# EAGLE library part 4051 (library abdullah_4051)
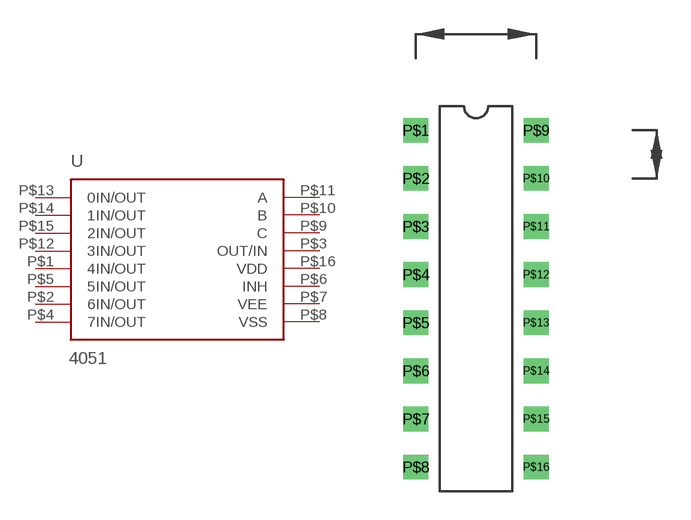
[diagram p0: symbol with the pads of DIP; footprint DIP]

Designator prefix -

## 4051  [DIP]
P$1  4IN/OUT
P$2  6IN/OUT
P$3  OUT/IN
P$4  7IN/OUT
P$5  5IN/OUT
P$6  INH
P$7  VEE
P$8  VSS
P$9  C
P$10  B
P$11  A
P$12  3IN/OUT
P$13  0IN/OUT
P$14  1IN/OUT
P$15  2IN/OUT
P$16  VDD

## Footprint DIP (pad centres in mm)
drill 0.8 square: P$1 -3.81,8.89; P$2 -3.81,6.35; P$3 -3.81,3.81; P$4 -3.81,1.27; P$5 -3.81,-1.27; P$6 -3.81,-3.81; P$7 -3.81,-6.35; P$8 -3.81,-8.89; P$9 2.54,8.89; P$10 2.54,6.35; P$11 2.54,3.81; P$12 2.54,1.27; P$13 2.54,-1.27; P$14 2.54,-3.81; P$15 2.54,-6.35; P$16 2.54,-8.89